# Altium footprint library PcbLib1.PcbLib: 2 footprints
Each footprint in its own frame and in the unit in brackets; x right, y up, seen from the top. Pads: shape width x height; smd on the part's side, far side on the other; paste and mask are expansions set on the pad; w line width, h text height; cw(c..) or ccw(c..) is an arc to the next point about the centre after c.
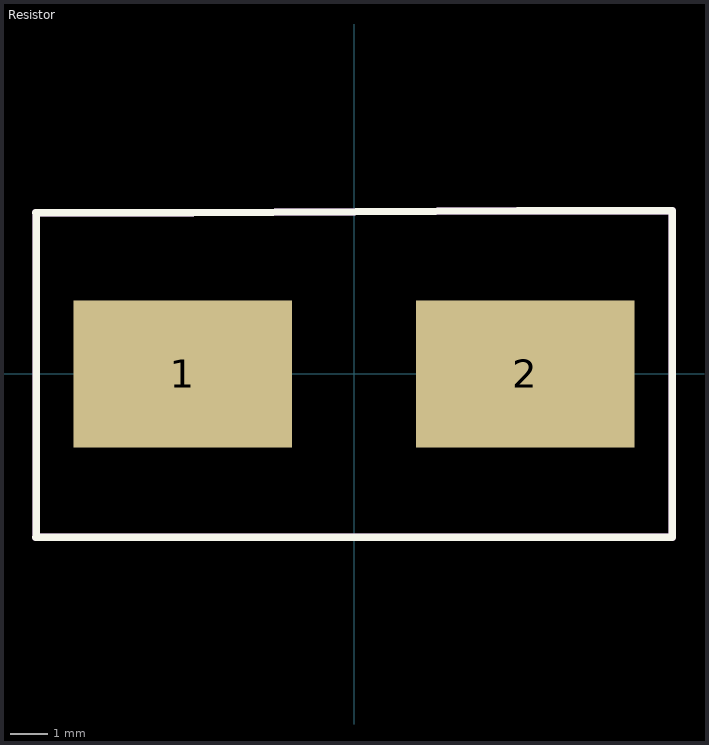
[diagram p0: the footprints below, top view; thin cyan lines are the x and y axes]

## PCBComponent_1 [mm]

## Resistor [mm]
pads (2):
  rect 5.84x3.94 smd: 1(-4.575,0) 2(4.575,0)
Top Overlay:
  lines w0.2: -8.509,-4.365 8.509,-4.365 8.509,4.318 ; -8.509,4.318 -4.364,4.318 ; -8.493,-4.365 -8.493,4.318 ; -4.318,4.318 4.38,4.365 8.509,4.365
Top Assembly:
  lines w0.2: -8.509,-4.365 8.509,-4.365 8.509,4.318 ; -8.509,4.318 -4.364,4.318 ; -8.493,-4.365 -8.493,4.318 ; -4.318,4.318 4.38,4.365 8.509,4.365
  text ".Designator" at -7.62,-0.508 h1.52
3D body "WSR5.stp": height 2.43, standoff 0.01, extent -5.78,-3.492 5.78,3.492